# Altium schematic symbol library UCC27424D.SchLib: 1 symbol
Pins are listed as number, name and electrical type; pins without a type are passive.

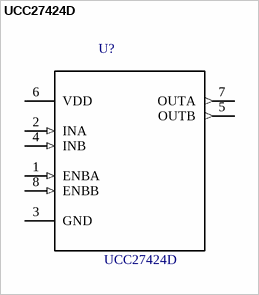
[diagram p0: symbol UCC27424D]

## UCC27424D
designator U?
/ UCC27424D MOSFET DRVR 4A2-OUT Lo Side Non-Inv 8-Pin SOIC Tube RoHS /; MF: Texas Instruments; Package: SOIC-8 Texas Instruments; MP: UCC27424D; SnapEDA_Link: https://www.snapeda.com/parts/UCC27424D/Texas%20Instruments/view-part/?ref=snap; Price: None; Availability: Unavailable; Value: *
footprint *SOIC127P600X175-8N
pins: 1 ENBA (in), 2 INA (in), 3 GND, 4 INB (in), 5 OUTB (out), 6 VDD (power), 7 OUTA (out), 8 ENBB (in)